# Altium schematic symbol library TLV62568PDDCR.SchLib: 1 symbol
Pins are listed as number, name and electrical type; pins without a type are passive.

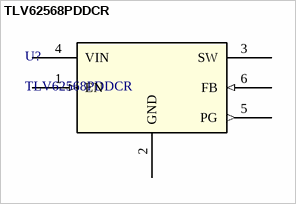
[diagram p0: symbol TLV62568PDDCR]

## TLV62568PDDCR
designator U?
2.5V-5.5V input, 1A high efficiency step-down buck converter in SOT23 and SOT563 package 6-SOT-23-THIN -40 to 125; Manufacturer_Name: Texas Instruments; Type: Power Management; Copyright: Copyright (C) 2026 Ultra Librarian. All rights reserved.; Manufacturer_Part_Number: TLV62568PDDCR; RefDes: RefDes
footprint DDC0006A_TEX
pins: 1 EN (in), 2 GND (power), 3 SW (power), 4 VIN (power), 5 PG (out), 6 FB (in)